# Altium footprint library PcbLib1.PcbLib: 41 footprints (part 2 of 3)
Each footprint in its own frame and in the unit in brackets; x right, y up, seen from the top. Pads: shape width x height; smd on the part's side, far side on the other; paste and mask are expansions set on the pad; w line width, h text height; cw(c..) or ccw(c..) is an arc to the next point about the centre after c.
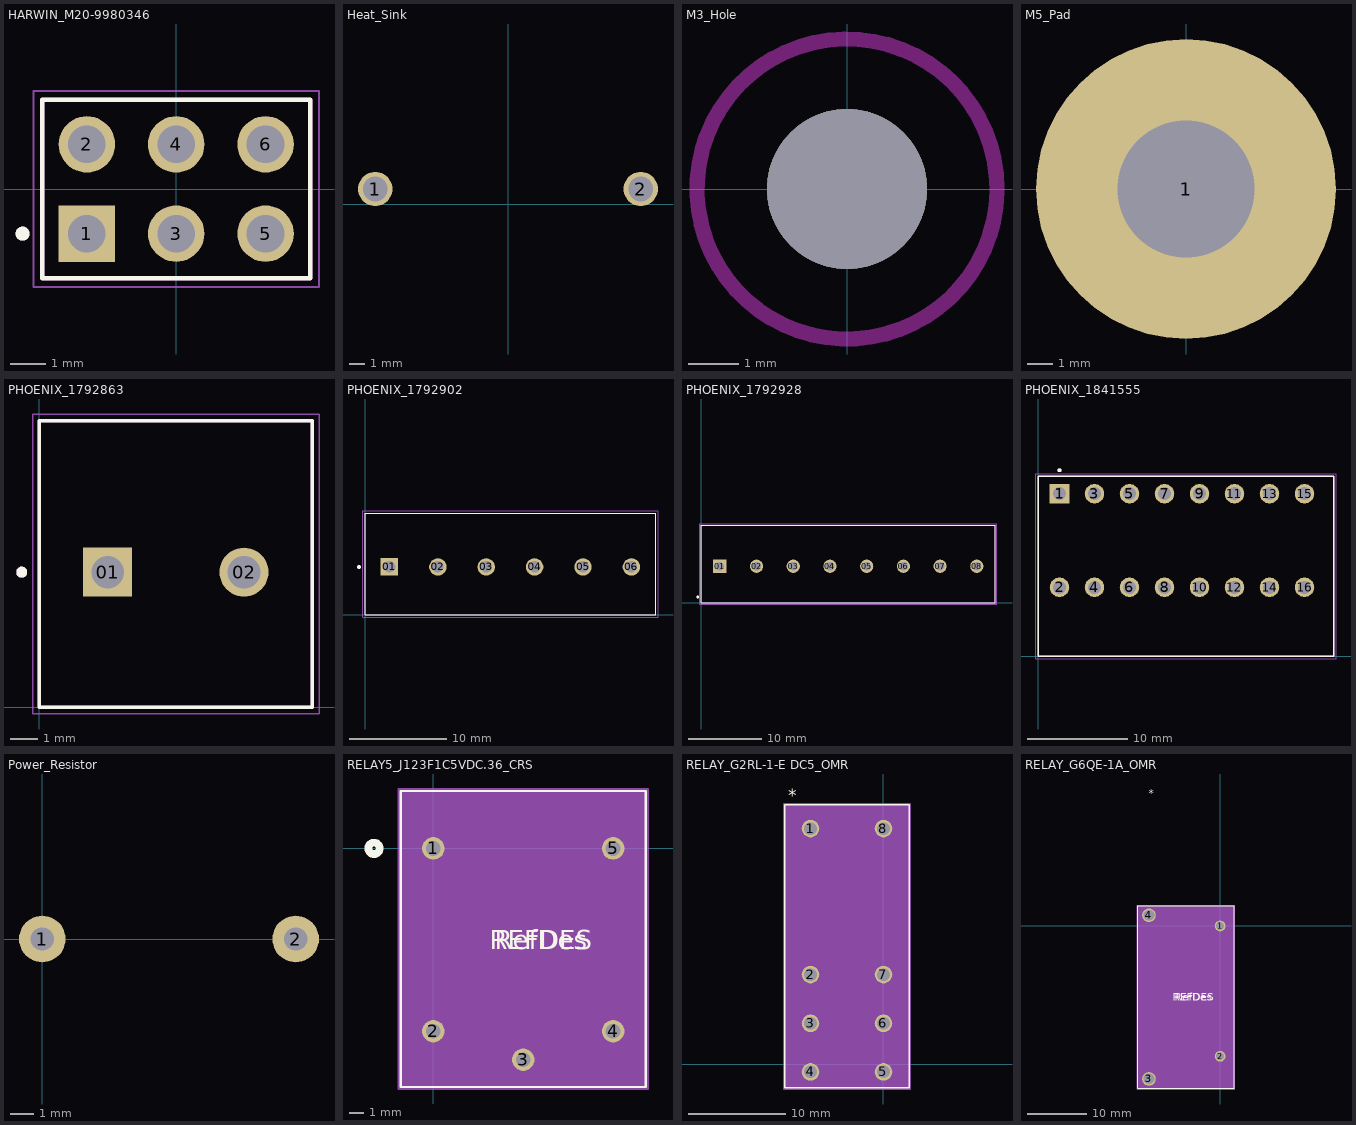
[diagram p1: the footprints below, top view; thin cyan lines are the x and y axes]

## HARWIN_M20-9980346 [mm]
pads (6):
  rect 1.605x1.605 / inner round 1.605 / far side rect 1.605x1.605 hole 1.07: 1(-2.54,-1.27)
  round 1.605 hole 1.07: 2(-2.54,1.27) 3(0,-1.27) 4(0,1.27) 5(2.54,-1.27) 6(2.54,1.27)
Top Overlay:
  circle w0.2: c-4.37,-1.27 r0.1
  lines w0.127: -3.81,-2.54 -3.81,2.54 3.81,2.54 3.81,-2.54 -3.81,-2.54
Mechanical 13:
  circle w0.2: c-4.37,-1.27 r0.1
  lines w0.127: -3.81,-2.54 -3.81,2.54 3.81,2.54 3.81,-2.54 -3.81,-2.54
Mechanical 15:
  lines w0.05: -4.06,-2.79 4.06,-2.79 4.06,2.79 -4.06,2.79 -4.06,-2.79
3D body "m20-9980346.stp": height 8.64, standoff -3.04, extent -3.81,-2.54 3.81,2.54

## Heat_Sink [mil]
pads (2):
  round 90 hole 65 unplated: 1(-346.46,39.37) 2(346.46,39.37)
3D body "R2A-CT4-38E.STEP": height 1496.06, standoff -141.73, extent -692.91,-488.3 692.91,433.07

## M3_Hole [mm]
pads (1):
  round 3.2 hole 3.2 unplated: ""(0,0)
Keep-Out Layer:
  lines w0.305: 2.999,-0.057 cw(c0,0) 3,0

## M5_Pad [mm]
pads (1):
  round 12 hole 5.5: 1(0,0)

## PCBComponent_1 [mm]

## PCBComponent_1 - duplicate [mm]

## PCBComponent_1 - duplicate1 [mm]

## PCBComponent_1 - duplicate2 [mm]

## PHOENIX_1792863 [mm]
pads (2):
  rect 1.8x1.8 / inner round 1.8 / far side rect 1.8x1.8 hole 1.2: 01(2.5,4.95)
  round 1.8 hole 1.2: 02(7.5,4.95)
Top Overlay:
  circle w0.2: c-0.65,4.95 r0.1
  lines w0.127: 0,0 0,10.5 10,10.5 10,0 0,0
Mechanical 13:
  circle w0.2: c-0.65,4.95 r0.1
  lines w0.127: 0,0 0,10.5 10,10.5 10,0 0,0
Mechanical 15:
  lines w0.05: -0.25,-0.25 -0.25,10.75 10.25,10.75 10.25,-0.25 -0.25,-0.25

## PHOENIX_1792902 [mm]
pads (6):
  rect 1.8x1.8 / inner round 1.8 / far side rect 1.8x1.8 hole 1.2: 01(2.5,4.95)
  round 1.8 hole 1.2: 02(7.5,4.95) 03(12.5,4.95) 04(17.5,4.95) 05(22.5,4.95) 06(27.5,4.95)
Top Overlay:
  circle w0.2: c-0.65,4.95 r0.1
  lines w0.127: 0,0 0,10.5 30,10.5 30,0 0,0
Mechanical 13:
  circle w0.2: c-0.65,4.95 r0.1
  lines w0.127: 0,0 0,10.5 30,10.5 30,0 0,0
Mechanical 15:
  lines w0.05: -0.25,-0.25 -0.25,10.75 30.25,10.75 30.25,-0.25 -0.25,-0.25
3D body "1792902.stp": height 13.6, standoff -2.5, extent 0,-0.05 30,10.45

## PHOENIX_1792928 [mm]
pads (8):
  rect 1.8x1.8 / inner round 1.8 / far side rect 1.8x1.8 hole 1.2: 01(2.5,4.95)
  round 1.8 hole 1.2: 02(7.5,4.95) 03(12.5,4.95) 04(17.5,4.95) 05(22.5,4.95) 06(27.5,4.95) 07(32.5,4.95) 08(37.5,4.95)
Top Overlay:
  circle w0.2: c-0.508,0.762 r0.1
  lines w0.127: 0,0 40,0 40,10.5 0,10.5 0,0
Mechanical 13:
  circle w0.2: c-0.508,0.762 r0.1
  lines w0.127: 0,0 40,0 40,10.5 0,10.5 0,0
Mechanical 15:
  lines w0.05: -0.25,-0.25 40.25,-0.25 40.25,10.75 -0.25,10.75 -0.25,-0.25
3D body "1792928.stp": height 13.6, standoff -2.5, extent 0,-0.05 40,10.45

## PHOENIX_1841555 [mm]
height 24.4
pads (16):
  rect 1.95x1.95 / inner round 1.95 / far side rect 1.95x1.95 hole 1.3: 1(2.1,16.25)
  round 1.95 hole 1.3: 2(2.1,6.9) 3(5.6,16.25) 4(5.6,6.9) 5(9.1,16.25) 6(9.1,6.9) 7(12.6,16.25) 8(12.6,6.9) 9(16.1,16.25) 10(16.1,6.9) 11(19.6,16.25) 12(19.6,6.9) 13(23.1,16.25) 14(23.1,6.9) 15(26.6,16.25) 16(26.6,6.9)
Top Overlay:
  circle w0.2: c2.1,18.6 r0.1
  lines w0.127: 0,0 29.5,0 29.5,18 0,18 0,0
Mechanical 13:
  circle w0.2: c2.1,18.6 r0.1
  lines w0.127: 0,0 29.5,0 29.5,18 0,18 0,0
Mechanical 15:
  lines w0.05: -0.25,-0.25 29.75,-0.25 29.75,18.25 -0.25,18.25 -0.25,-0.25
3D body "1841555.stp": height 24.2, standoff -3.5, extent -0.018,0 29.482,18

## Power_Resistor [mm]
pads (2):
  round 2 hole 1: 1(0,0) 2(10.9,0)
3D body "PF2472-200RF1.stp": height 20, standoff -14.5, extent -2.5,-1.8 13.5,3

## RELAY5_J123F1C5VDC.36_CRS [mil]
pads (5):
  round 59 / inner round 60 / far side round 59 hole 39 paste-99999 mask+0: 1(0,0) 2(0,-480.31) 3(236.22,-555.12) 4(472.44,-480.31) 5(472.44,0)
Top Overlay:
  circle w20: c-155.78,0 r15
  lines w6: -85.78,-627.05 -85.78,150.95 558.22,150.95 558.22,-627.05 -85.78,-627.05
  text "REFDES" at 148.72,-265.16 h50
  text "RefDes" at 161.22,-265.16 h50
Bottom Overlay:
  circle w20: c-155.78,0 r15
Mechanical 13:
  circle w20: c0,75 r15
  lines w1: -80.78,-622.05 -80.78,145.95 553.22,145.95 553.22,-622.05 -80.78,-622.05
  text "RefDes2" at 148.72,-265.16 h50
Mechanical 15:
  region: 563.22,155.95 -90.78,155.95 -90.78,-632.05 563.22,-632.05
  lines w6: -90.78,-632.05 563.22,-632.05 563.22,155.95 -90.78,155.95 -90.78,-632.05

## RELAY_G2RL-1-E DC5_OMR [mil]
pads (8):
  round 71 / inner round 60 / far side round 71 hole 51 paste-99999 mask+0: 1(-295.28,952.76) 2(-295.28,362.2) 3(-295.28,165.35) 4(-295.28,-31.5) 5(0,-31.5) 6(0,165.35) 7(0,362.2) 8(0,952.76)
Top Overlay:
  lines w6: -398.7,-95.55 103.43,-95.55 103.43,1048.31 -398.7,1048.31 -398.7,-95.55
  text "*" at -385.83,1062.99 h50
Mechanical 13:
  lines w0: -159.64,1043.31 ccw(c-147.64,1043.31) -135.64,1043.31
  lines w1: -393.7,-90.55 98.43,-90.55 98.43,1043.31 -393.7,1043.31 -393.7,-90.55
Mechanical 15:
  region: 108.43,-100.55 -403.7,-100.55 -403.7,1053.31 108.43,1053.31
  region: 98.43,-90.55 -393.7,-90.55 -393.7,1043.31 98.43,1043.31
  lines w6: -403.7,-100.55 -403.7,1053.31 108.43,1053.31 108.43,-100.55 -403.7,-100.55
3D body "G2RL_1_E_HA.step": height 618.11, standoff -137.8, extent -397.64,-94.49 102.36,1047.24

## RELAY_G6QE-1A_OMR [mm]
pads (4):
  round 1.808 / inner round 1.524 / far side round 1.808 hole 1.3 paste-2539.97 mask+0: 1(0,0) 2(0,-22)
  round 2.308 / inner round 1.524 / far side round 2.308 hole 1.8 paste-2539.97 mask+0: 3(-12,-25.8) 4(-12,1.8)
Top Overlay:
  lines w0.152: -13.877,-27.377 2.377,-27.377 2.377,3.377 -13.877,3.377 -13.877,-27.377
  text "*" at -12.067,21.83 h1.27
  text "RefDes" at -7.655,-12.635 h1.27
  text "REFDES" at -7.972,-12.635 h1.27
Mechanical 13:
  lines w0: -6.055,3.25 ccw(c-5.75,3.25) -5.445,3.25
  lines w0.025: -13.75,-27.25 2.25,-27.25 2.25,3.25 -13.75,3.25 -13.75,-27.25
  text "*" at -12.067,18.93 h1.27
  text "RefDes2" at -7.972,-12.635 h1.27
Mechanical 15:
  region: 2.504,-27.504 -14.004,-27.504 -14.004,3.504 2.504,3.504
  region: 2.25,-27.25 -13.75,-27.25 -13.75,3.25 2.25,3.25
  lines w0.152: -14.004,-27.504 -14.004,3.504 2.504,3.504 2.504,-27.504 -14.004,-27.504